# Altium footprint library DRV8833.PcbLib: 1 footprints
Each footprint in its own frame and in the unit in brackets; x right, y up, seen from the top. Pads: shape width x height; smd on the part's side, far side on the other; paste and mask are expansions set on the pad; w line width, h text height; cw(c..) or ccw(c..) is an arc to the next point about the centre after c.
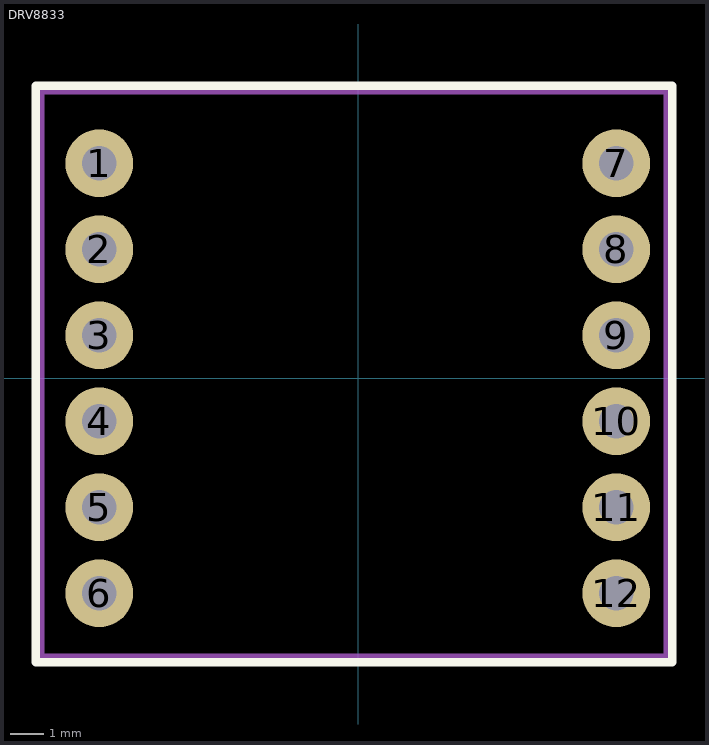
[diagram p0: the footprint, top view; thin cyan lines are the x and y axes]

## DRV8833 [mm]
pads (12):
  round 2 hole 1.02: 1(-7.65,6.35) 2(-7.65,3.81) 3(-7.65,1.27) 4(-7.65,-1.27) 5(-7.65,-3.81) 6(-7.65,-6.35) 7(7.62,6.35) 8(7.62,3.81) 9(7.62,1.27) 10(7.62,-1.27) 11(7.62,-3.81) 12(7.62,-6.35)
Top Overlay:
  lines w0.254: -9.525,-8.382 9.271,-8.382 9.271,8.636 -9.525,8.636 -9.525,-8.382
Mechanical 1:
  lines w0.254: -9.398,-8.255 9.144,-8.255 9.144,8.509 -9.398,8.509 -9.398,-8.255
3D body "Modulo_DRV8833_A.stp": height 5.9, standoff -6.1, extent -9.329,-8.382 9.271,8.368